# EAGLE library part MIA-M10Q-00B (library MIA-M10Q-00B)
u-blox M10 GNSS System-in-Package ROM, TCXO, SAW, LNA, 1.8/3V 4.5 x 4.5 mm, S-LGA 53, Source: Datasheet <https://content.u-blox.com/sites/default/files/documents/MIA-M10Q_DataSheet_UBX-22015849.pdf>
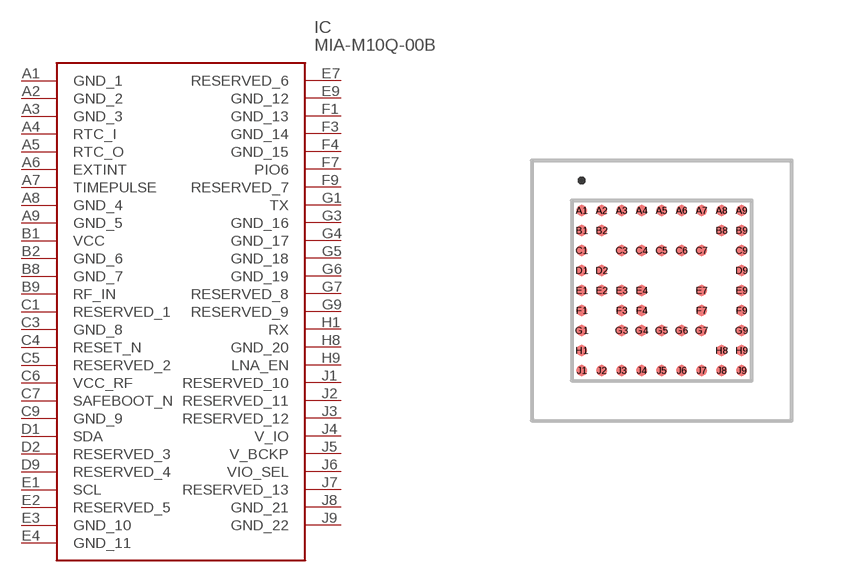
[diagram p0: symbol with the pads of MIAM10Q00B; footprint MIAM10Q00B]

Designator prefix IC

## MIA-M10Q-00B (Description: u-blox M10 GNSS System-in-Package ROM, TCXO, SAW, LNA, 1.8/3V 4.5 x 4.5 mm, S-LGA 53,; Height: 1.045mm; Manufacturer_Name: U-Blox; Manufacturer_Part_Number: MIA-M10Q-00B; Mouser_Part_Number: 377-MIA-M10Q-00B; Mouser_Price-Stock: https://www.mouser.co.uk/ProductDetail/u-blox/MIA-M10Q-00B?qs=4ASt3YYao0VBtAexfwtW5Q%3D%3D)  [MIAM10Q00B]
A1  GND_1
A2  GND_2
A3  GND_3
A4  RTC_I
A5  RTC_O
A6  EXTINT
A7  TIMEPULSE
A8  GND_4
A9  GND_5
B1  VCC
B2  GND_6
B8  GND_7
B9  RF_IN
C1  RESERVED_1
C3  GND_8
C4  RESET_N
C5  RESERVED_2
C6  VCC_RF
C7  SAFEBOOT_N
C9  GND_9
D1  SDA
D2  RESERVED_3
D9  RESERVED_4
E1  SCL
E2  RESERVED_5
E3  GND_10
E4  GND_11
E7  RESERVED_6
E9  GND_12
F1  GND_13
F3  GND_14
F4  GND_15
F7  PIO6
F9  RESERVED_7
G1  TX
G3  GND_16
G4  GND_17
G5  GND_18
G6  GND_19
G7  RESERVED_8
G9  RESERVED_9
H1  RX
H8  GND_20
H9  LNA_EN
J1  RESERVED_10
J2  RESERVED_11
J3  RESERVED_12
J4  V_IO
J5  V_BCKP
J6  VIO_SEL
J7  RESERVED_13
J8  GND_21
J9  GND_22

## Footprint MIAM10Q00B (pad centres in mm)
MIA-M10Q-00B-1
smd 0.27 x 0.27: A1 -2,2; A2 -1.5,2; A3 -1,2; A4 -0.5,2; A5 0,2; A6 0.5,2; A7 1,2; A8 1.5,2; A9 2,2; B1 -2,1.5; B2 -1.5,1.5; B8 1.5,1.5; B9 2,1.5; C1 -2,1; C3 -1,1; C4 -0.5,1; C5 0,1; C6 0.5,1; C7 1,1; C9 2,1; D1 -2,0.5; D2 -1.5,0.5; D9 2,0.5; E1 -2,0; E2 -1.5,0; E3 -1,0; E4 -0.5,0; E7 1,0; E9 2,0; F1 -2,-0.5; F3 -1,-0.5; F4 -0.5,-0.5; F7 1,-0.5; F9 2,-0.5; G1 -2,-1; G3 -1,-1; G4 -0.5,-1; G5 0,-1; G6 0.5,-1; G7 1,-1; G9 2,-1; H1 -2,-1.5; H8 1.5,-1.5; H9 2,-1.5; J1 -2,-2; J2 -1.5,-2; J3 -1,-2; J4 -0.5,-2; J5 0,-2; J6 0.5,-2; J7 1,-2; J8 1.5,-2; J9 2,-2